# Altium footprint library ERN.PcbLib: 14 footprints
Each footprint in its own frame and in the unit in brackets; x right, y up, seen from the top. Pads: shape width x height; smd on the part's side, far side on the other; paste and mask are expansions set on the pad; w line width, h text height; cw(c..) or ccw(c..) is an arc to the next point about the centre after c.
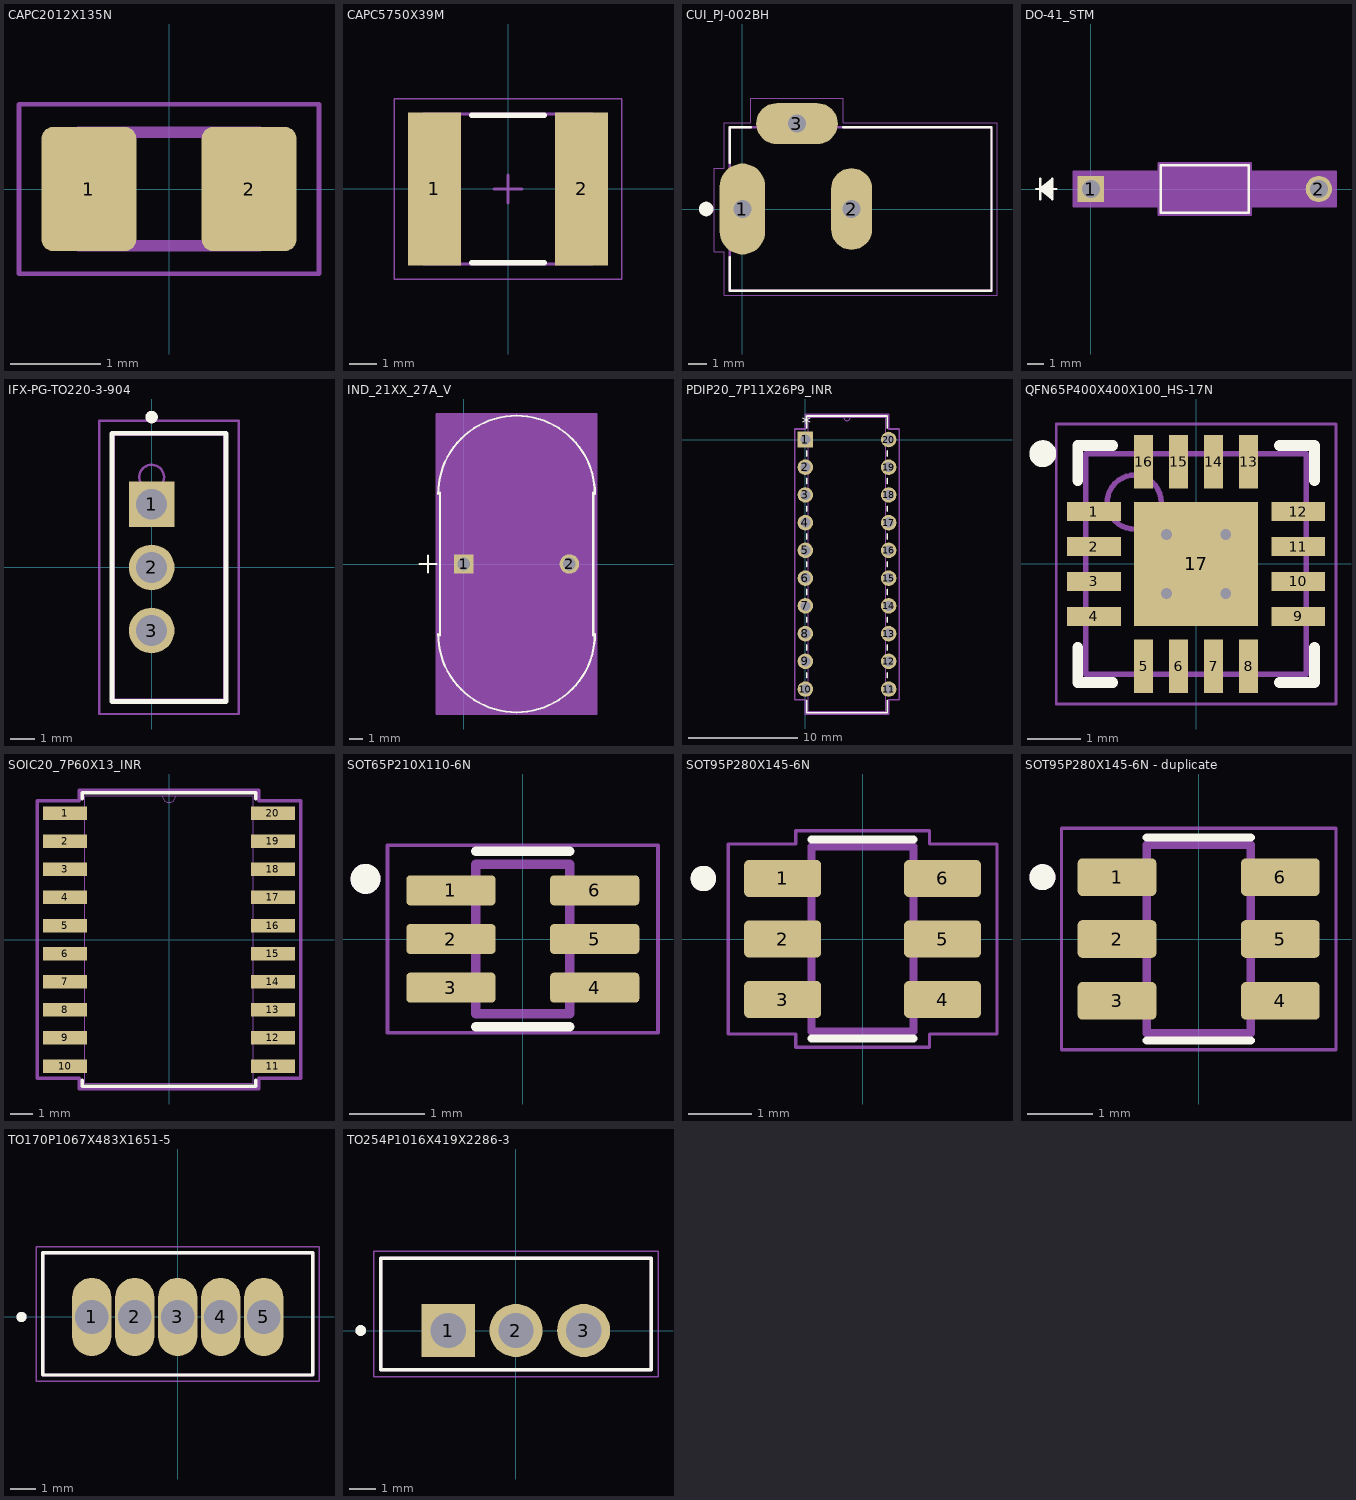
[diagram p0: the footprints below, top view; thin cyan lines are the x and y axes]

## CAPC2012X135N [mm]
pads (2):
  rrect25% 1.05x1.38 smd paste+0 mask+0.102: 1(-0.888,0) 2(0.888,0)
Mechanical 13:
  lines w0.127: -1,-0.63 -1,0.63 1,0.63 1,-0.63 -1,-0.63
Mechanical 15:
  lines w0.05: -1.663,-0.94 -1.663,0.94 1.663,0.94 1.663,-0.94 -1.663,-0.94
3D body "step_temp.STEP": height 1.35, standoff 0, extent -1,-0.625 1,0.625

## CAPC5750X39M [mm] "Chip Capacitor, 2-Leads, Body 5.70x5.00mm, IPC Low Density"
height 3.9
pads (2):
  rect 1.9x5.5 smd: 1(-2.65,0) 2(2.65,0)
Top Overlay:
  lines w0.2: -1.3,-2.65 1.3,-2.65 ; -1.3,2.65 1.3,2.65
Mechanical 13:
  lines w0.1: -3.05,-2.7 -3.05,2.7 3.05,2.7 3.05,-2.7 -3.05,-2.7
Mechanical 15:
  lines w0.05: -4.1,-3.25 -4.1,3.25 4.1,3.25 4.1,-3.25 -4.1,-3.25
  lines w0.1: -0.5,0 0.5,0 ; 0,-0.5 0,0.5
3D body "CAPC5750X39M.step": height 3.9, standoff 0, extent -3.05,-2.7 3.05,2.7

## CUI_PJ-002BH [mm]
pads (3):
  oval 2.5x5 hole 1 square: 1(0,0)
  oval 2.25x4.5 hole 1 square: 2(6,0)
  oval 4.5x2.25 hole 1 square: 3(3,4.7)
Top Overlay:
  circle w0.4: c-2,0 r0.2
  lines w0.127: -0.7,-2.65 -0.7,-4.5 13.7,-4.5 13.7,4.5 5.55,4.5 ; -0.7,2.55 -0.7,4.5 0.45,4.5
Mechanical 13:
  lines w0.127: -0.7,-4.5 13.7,-4.5 13.7,4.5 -0.7,4.5 -0.7,-4.5
Mechanical 15:
  lines w0.05: -1.55,-2.35 -1.55,2.25 -1,2.25 -1,4.75 0.45,4.75 0.45,6.1 5.55,6.1 5.55,4.75 14,4.75 14,-4.75 -1,-4.75 -1,-2.35 -1.55,-2.35
3D body "step_temp.STEP": height 4.5, standoff -10, extent -0.635,-4.7 13.765,4.7

## DO-41_STM [mil]
pads (2):
  rect 64x64 hole 44 paste-99999 mask+0: 1(0,0)
  round 64 hole 44 paste-99999 mask+0: 2(557,0)
Top Overlay:
  lines w6: -134,0 -84,0 ; -124,-25 -124,25 ; -94,-20 -124,0 ; -94,-15 -124,0 ; -94,-10 -124,0 ; -94,-5 -124,0 ; -94,5 -124,0 ; -94,10 -124,0 ; -94,15 -124,0 ; -94,20 -124,0 ; -124,0 -94,-25 -94,25 -124,0 ; 171,-58 171,58 386,58 386,-58 171,-58
  text ".Designator" at 141,-25 h50
Mechanical 13:
  lines w1: -134,0 -84,0 ; -124,-25 -124,25 ; -94,-20 -124,0 ; -94,-15 -124,0 ; -94,-10 -124,0 ; -94,-5 -124,0 ; -94,5 -124,0 ; -94,10 -124,0 ; -94,15 -124,0 ; -94,20 -124,0 ; 0,0 176,0 ; 381,0 557,0 ; -124,0 -94,-25 -94,25 -124,0 ; 176,-53 176,53 381,53 381,-53 176,-53
  text ".Designator" at 141,-25 h50
Mechanical 15:
  region: 381,-53 176,-53 176,53 381,53
  region: 166,-42 -42,-42 -42,42 166,42 166,63 391,63 391,42 599,42 599,-42 391,-42 391,-63 166,-63
  lines w6: -42,-42 166,-42 166,-63 391,-63 391,-42 599,-42 599,42 391,42 391,63 166,63 166,42 -42,42 -42,-42
3D body "DO-41_STM.step": height 106.06, standoff -100, extent -17.01,-52.71 574.02,52.71

## IFX-PG-TO220-3-904 [mm] "TO,flange mount,2.54mm pitch;3 pin,4.45mm L X 10.66mm W X 19.15mm H body"
height 19.15
pads (3):
  rect 1.84x1.84 hole 1.24 paste-2539.97 mask+0: 1(0,2.54)
  round 1.84 hole 1.24 paste-2539.97 mask+0: 2(0,0) 3(0,-2.54)
Top Overlay:
  circle w0.25: c0,6.05 r0.125
  lines w0.2: -1.6,-5.4 -1.6,5.4 3,5.4 3,-5.4 -1.6,-5.4
Mechanical 3:
  text ".DESIGNATOR" at 0,0 h1.2
Mechanical 13:
  circle w0.1: c0,3.632 r0.5
  lines w0.1: -1.52,-5.33 -1.52,5.33 2.93,5.33 2.93,-5.33 -1.52,-5.33
Mechanical 15:
  lines w0.1: -0.5,0 0.5,0 ; 0,-0.5 0,0.5 ; -2.1,-5.9 -2.1,5.9 3.5,5.9 3.5,-5.9 -2.1,-5.9
3D body "PG-TO220-3-904_Z8B00185321_V03_3D.stp": height 19.1, standoff -9.85, extent -1.53,-5.33 2.93,5.33

## IND_21XX_27A_V [mil]
pads (2):
  rect 57x57 hole 37 paste-99999 mask+0: 1(0,0)
  round 57 hole 37 paste-99999 mask+0: 2(310,0)
Top Overlay:
  lines w6: -130,0 -80,0 ; -105,-25 -105,25 ; -75,-205 ccw(c155,-205) 385,-205 ; -75,205 cw(c155,205) 385,205 ; -70,-210 -70,210 ; 380,-210 380,210
  text ".Designator" at 17.5,-25 h50
Mechanical 13:
  lines w1: -130,0 -80,0 ; -105,-25 -105,25 ; -70,-205 ccw(c155,-205) 380,-205 380,205 ccw(c155,205) -70,205 -70,-205
  text ".Designator" at 17.5,-25 h50
Mechanical 15:
  region: 390,-440 -80,-440 -80,440 390,440
  lines w6: -80,-440 390,-440 390,440 -80,440 -80,-440

## PDIP20_7P11X26P9_INR [mil]
pads (20):
  rect 56x56 hole 36 paste-99999 mask+0: 1(0,0)
  round 56 hole 36 paste-99999 mask+0: 2(0,-100) 3(0,-200) 4(0,-300) 5(0,-400) 6(0,-500) 7(0,-600) 8(0,-700) 9(0,-800) 10(0,-900) 11(300,-900) 12(300,-800) 13(300,-700) 14(300,-600) 15(300,-500) 16(300,-400) 17(300,-300) 18(300,-200) 19(300,-100) 20(300,0)
Top Overlay:
  lines w6: 5,-940.79 5,-985 295,-985 295,-940.79 ; 5,-859.21 5,-840.79 ; 5,-759.21 5,-740.79 ; 5,-659.21 5,-640.79 ; 5,-559.21 5,-540.79 ; 5,-459.21 5,-440.79 ; 5,-359.21 5,-340.79 ; 5,-259.21 5,-240.79 ; 5,-159.21 5,-140.79 ; 5,-59.21 5,-41.1 ; 5,41.1 5,85 295,85 295,40.79 ; 295,-859.21 295,-840.79 ; 295,-759.21 295,-740.79 ; 295,-659.21 295,-640.79 ; 295,-559.21 295,-540.79 ; 295,-459.21 295,-440.79 ; 295,-359.21 295,-340.79 ; 295,-259.21 295,-240.79 ; 295,-159.21 295,-140.79 ; 295,-59.21 295,-40.79
  text "*" at -12.5,33 h50
  text ".Designator" at 12.5,-475 h50
Mechanical 13:
  lines w1: 138,80 ccw(c150,80) 162,80 ; -18,-918 -18,-882 10,-882 10,-918 -18,-918 ; -18,-818 -18,-782 10,-782 10,-818 -18,-818 ; -18,-718 -18,-682 10,-682 10,-718 -18,-718 ; -18,-618 -18,-582 10,-582 10,-618 -18,-618 ; -18,-518 -18,-482 10,-482 10,-518 -18,-518 ; -18,-418 -18,-382 10,-382 10,-418 -18,-418 ; -18,-318 -18,-282 10,-282 10,-318 -18,-318 ; -18,-218 -18,-182 10,-182 10,-218 -18,-218 ; -18,-118 -18,-82 10,-82 10,-118 -18,-118 ; -18,-18 -18,18 10,18 10,-18 -18,-18 ; 10,-980 290,-980 290,80 10,80 10,-980 ; 290,-918 290,-882 318,-882 318,-918 290,-918 ; 290,-818 290,-782 318,-782 318,-818 290,-818 ; 290,-718 290,-682 318,-682 318,-718 290,-718 ; 290,-618 290,-582 318,-582 318,-618 290,-618 ; 290,-518 290,-482 318,-482 318,-518 290,-518 ; 290,-418 290,-382 318,-382 318,-418 290,-418 ; 290,-318 290,-282 318,-282 318,-318 290,-318 ; 290,-218 290,-182 318,-182 318,-218 290,-218 ; 290,-118 290,-82 318,-82 318,-118 290,-118 ; 290,-18 290,18 318,18 318,-18 290,-18
  text ".Designator" at 12.5,-475 h50
  text "*" at 7.5,-25 h50
Mechanical 15:
  lines w6: -38,-938 -38,38 0,38 0,90 300,90 300,38 338,38 338,-938 300,-938 300,-990 0,-990 0,-938 -38,-938
3D body "PDIP20_7P11X26P9_INR.step": height 217.09, standoff -100, extent -7.01,-980 320.98,80

## QFN65P400X400X100_HS-17N [mm] "QFN, 16-Leads, Body 4.00x4.00mm, Pitch 0.65mm, Thermal Pad 2.30x2.30mm, IPC Medium Density"
height 1
pads (17):
  rect 1x0.35 smd: 1(-1.9,0.975) 2(-1.9,0.325) 3(-1.9,-0.325) 4(-1.9,-0.975) 9(1.9,-0.975) 10(1.9,-0.325) 11(1.9,0.325) 12(1.9,0.975)
  rect 0.35x1 smd: 5(-0.975,-1.9) 6(-0.325,-1.9) 7(0.325,-1.9) 8(0.975,-1.9) 13(0.975,1.9) 14(0.325,1.9) 15(-0.325,1.9) 16(-0.975,1.9)
  rect 2.3x2.3 smd: 17(0,0)
via -0.55,0.55 diameter 0.5 hole 0.2
via 0.55,0.55 diameter 0.5 hole 0.2
via -0.55,-0.55 diameter 0.5 hole 0.2
via 0.55,-0.55 diameter 0.5 hole 0.2
Top Overlay:
  circle w0.25: c-2.85,2.05 r0.125
  lines w0.2: -2.2,-1.55 -2.2,-2.2 -1.55,-2.2 ; -2.2,1.55 -2.2,2.2 -1.55,2.2 ; 1.55,-2.2 2.2,-2.2 2.2,-1.55 ; 1.55,2.2 2.2,2.2 2.2,1.55
Mechanical 13:
  circle w0.1: c-1.15,1.15 r0.5
  lines w0.1: -2.05,-2.05 -2.05,2.05 2.05,2.05 2.05,-2.05 -2.05,-2.05
Mechanical 15:
  lines w0.05: -2.6,-2.6 -2.6,2.6 2.6,2.6 2.6,-2.6 -2.6,-2.6
  lines w0.1: -0.5,0 0.5,0 ; 0,-0.5 0,0.5
3D body "QFN65P400X400X100_HS-17N.step": height 1, standoff 0, extent -2.051,-2.051 2.051,2.051

## SOIC20_7P60X13_INR [mil]
pads (20):
  rect 79x24 smd paste+0 mask+0: 1(-185.04,225) 2(-185.04,175) 3(-185.04,125) 4(-185.04,75) 5(-185.04,25) 6(-185.04,-25) 7(-185.04,-75) 8(-185.04,-125) 9(-185.04,-175) 10(-185.04,-225) 11(185.04,-225) 12(185.04,-175) 13(185.04,-125) 14(185.04,-75) 15(185.04,-25) 16(185.04,25) 17(185.04,75) 18(185.04,125) 19(185.04,175) 20(185.04,225)
Top Overlay:
  lines w6: -154.61,-250.1 -154.61,-260.91 154.61,-260.91 154.61,-250.1 ; -154.61,250.1 -154.61,260.91 154.61,260.91 154.61,250.1
  text ".Designator" at -245,300 h50
Mechanical 13:
  lines w1: -12,255.91 ccw(c0,255.91) 12,255.91 ; -149.61,-255.91 -149.61,255.91 149.61,255.91 149.61,-255.91 -149.61,-255.91
Mechanical 15:
  lines w6: -234.54,-247 -159.61,-247 -159.61,-265.91 159.61,-265.91 159.61,-247 234.54,-247 234.54,247 159.61,247 159.61,265.91 -159.61,265.91 -159.61,247 -234.54,247 -234.54,-247
3D body "SOIC20_7P60X13_INR.step": height 104.33, standoff 0, extent -210.75,-255.91 210.75,255.91

## SOT65P210X110-6N [mm]
pads (6):
  rrect25% 1.19x0.4 smd: 1(-0.96,0.65) 2(-0.96,0) 3(-0.96,-0.65) 4(0.96,-0.65) 5(0.96,0) 6(0.96,0.65)
Top Overlay:
  circle w0.2: c-2.1,0.802 r0.1
  lines w0.127: -0.625,-1.17 0.625,-1.17 ; -0.625,1.17 0.625,1.17
Mechanical 13:
  circle w0.2: c-2.1,0.802 r0.1
  lines w0.127: -0.625,-1 -0.625,1 0.625,1 0.625,-1 -0.625,-1
Mechanical 15:
  lines w0.05: -1.805,-1.25 -1.805,1.25 1.805,1.25 1.805,-1.25 -1.805,-1.25
3D body "step_temp.STEP": height 1.1, standoff 0, extent -1.05,-1 1.05,1

## SOT95P280X145-6N [mm]
height 1.45
pads (6):
  rrect25% 1.21x0.58 smd: 1(-1.255,0.95) 2(-1.255,0) 3(-1.255,-0.95) 4(1.255,-0.95) 5(1.255,0) 6(1.255,0.95)
Top Overlay:
  circle w0.2: c-2.5,0.95 r0.1
  lines w0.127: -0.8,-1.56 0.8,-1.56 ; -0.8,1.56 0.8,1.56
Mechanical 13:
  circle w0.2: c-2.5,0.95 r0.1
  lines w0.127: -0.8,-1.45 0.8,-1.45 0.8,1.45 -0.8,1.45 -0.8,-1.45
Mechanical 15:
  lines w0.05: -2.11,-1.49 -1.05,-1.49 -1.05,-1.7 1.05,-1.7 1.05,-1.49 2.11,-1.49 2.11,1.49 1.05,1.49 1.05,1.7 -1.05,1.7 -1.05,1.49 -2.11,1.49 -2.11,-1.49
3D body "step_temp.STEP": height 1.45, standoff 0, extent -1.4,-1.45 1.4,1.45

## SOT95P280X145-6N - duplicate [mm]
height 1.45
pads (6):
  rrect25% 1.21x0.58 smd: 1(-1.255,0.95) 2(-1.255,0) 3(-1.255,-0.95) 4(1.255,-0.95) 5(1.255,0) 6(1.255,0.95)
Top Overlay:
  circle w0.2: c-2.4,0.95 r0.1
  lines w0.127: -0.8,-1.56 0.8,-1.56 ; -0.8,1.56 0.8,1.56
Mechanical 13:
  circle w0.2: c-2.4,0.95 r0.1
  lines w0.127: -0.8,-1.45 -0.8,1.45 0.8,1.45 0.8,-1.45 -0.8,-1.45
Mechanical 15:
  lines w0.05: -2.11,-1.7 -2.11,1.7 2.11,1.7 2.11,-1.7 -2.11,-1.7
3D body "step_temp.STEP": height 1.45, standoff 0, extent -1.4,-1.45 1.4,1.45

## TO170P1067X483X1651-5 [mm]
height 16.51
pads (5):
  oval 1.55x3.1 hole 1.34: 1(-3.4,0) 2(-1.7,0) 3(0,0) 4(1.7,0) 5(3.4,0)
Top Overlay:
  circle w0.2: c-6.175,0 r0.1
  lines w0.127: -5.335,-2.29 -5.335,2.54 5.335,2.54 5.335,-2.29 -5.335,-2.29
Mechanical 13:
  circle w0.2: c-6.175,0 r0.1
  lines w0.127: -5.335,-2.29 -5.335,2.54 5.335,2.54 5.335,-2.29 -5.335,-2.29
Mechanical 15:
  lines w0.05: -5.585,-2.54 -5.585,2.775 5.585,2.775 5.585,-2.54 -5.585,-2.54
3D body "step_temp.STEP": height 16.84, standoff -14.73, extent -5.08,0 5.08,4.445

## TO254P1016X419X2286-3 [mm]
height 22.86
pads (3):
  rect 1.995x1.995 / inner round 1.995 / far side rect 1.995x1.995 hole 1.33: 1(-2.54,0)
  round 1.995 hole 1.33: 2(0,0) 3(2.54,0)
Top Overlay:
  circle w0.2: c-5.83,0 r0.1
  lines w0.127: -5.08,-1.478 5.08,-1.478 5.08,2.718 -5.08,2.718 -5.08,-1.478
Mechanical 13:
  circle w0.2: c-5.83,0 r0.1
  lines w0.127: -5.08,-1.478 5.08,-1.478 5.08,2.718 -5.08,2.718 -5.08,-1.478
Mechanical 15:
  lines w0.05: -5.33,-1.727 -5.33,2.967 5.33,2.967 5.33,-1.727 -5.33,-1.727
3D body "step_temp.STEP": height 22.86, standoff -8.38, extent -5.08,-1.473 5.08,2.718